# EAGLE library part I__74*19 (library ..SMD)
Hex schmitt trigger INVERTER
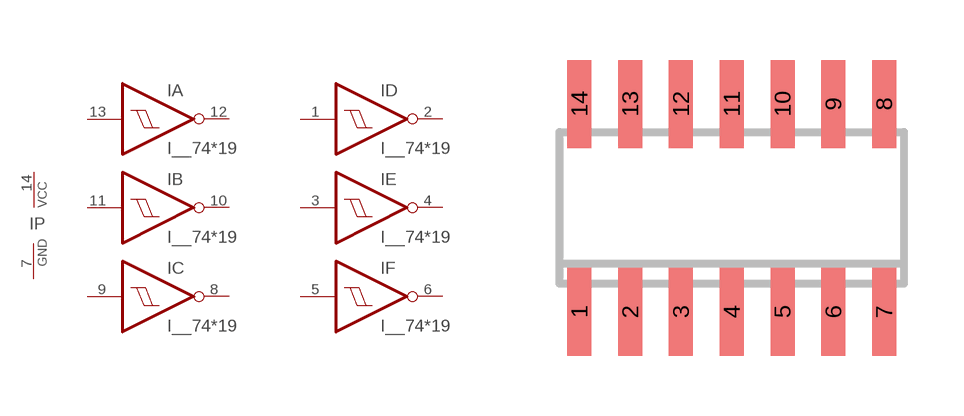
[diagram p163: symbol with the pads of SO14; footprint SO14]

Designator prefix I; gates A=7414 B=7414 C=7414 D=7414 E=7414 F=7414 P=PWRN-2

## I__74HC19D, I__74HCT19D, I__74LS19D  [SO14]
1  D:I  in
2  D:O  out
3  E:I  in
4  E:O  out
5  F:I  in
6  F:O  out
7  P:GND  pwr
8  C:O  out
9  C:I  in
10  B:O  out
11  B:I  in
12  A:O  out
13  A:I  in
14  P:VCC  pwr

## Footprint SO14 (pad centres in mm)
Small Outline Package 14
smd 0.6 x 2.2: 1 -3.81,-2.6; 2 -2.54,-2.6; 3 -1.27,-2.6; 4 0,-2.6; 5 1.27,-2.6; 6 2.54,-2.6; 7 3.81,-2.6; 8 3.81,2.6; 9 2.54,2.6; 10 1.27,2.6; 11 0,2.6; 12 -1.27,2.6; 13 -2.54,2.6; 14 -3.81,2.6